# EAGLE library part DS3234 (library Schuyler)
Real Time Clock. http://datasheets.maximintegrated.com/en/ds/DS3234.pdf
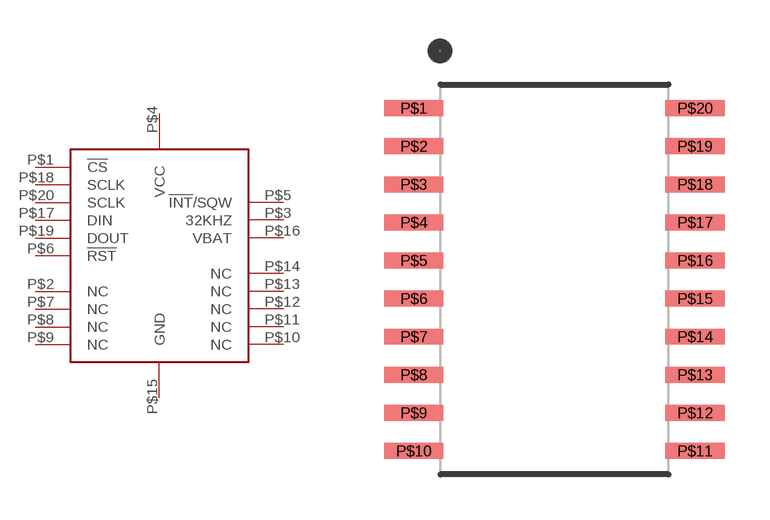
[diagram p24: symbol with the pads of SOIC-20_MAXIM; footprint SOIC-20_MAXIM]

Designator prefix U

## DS3234 (MANPARTNUMBER: DS3234S#; MANUFACTURER: Maxim Integrated; PARTNUMBER: DS3234S#-ND; SUPPLIER: DIGIKEY; VERIFIED: FALSE)  [SOIC-20_MAXIM]
P$1  !CS  in
P$2  NC  nc
P$3  32KHZ  out
P$4  VCC  pas
P$5  !INT!/SQW  out
P$6  !RST  in
P$7  NC  nc
P$8  NC  nc
P$9  NC  nc
P$10  NC  nc
P$11  NC  nc
P$12  NC  nc
P$13  NC  nc
P$14  NC  nc
P$15  GND  pas
P$16  VBAT  pas
P$17  DIN  in
P$18  SCLK  in
P$19  DOUT  out
P$20  SCLK  in

## Footprint SOIC-20_MAXIM (pad centres in mm)
SOIC 20 land pattern from Maxim. http://pdfserv.maximintegrated.com/land_patterns/90-0108.PDF Part outline: http://pdfserv.maximintegrated.com/package_dwgs/21-0042.PDF
smd 1.98 x 0.53: P$1 -4.685,5.715; P$2 -4.685,4.445; P$3 -4.685,3.175; P$4 -4.685,1.905; P$5 -4.685,0.635; P$6 -4.685,-0.635; P$7 -4.685,-1.905; P$8 -4.685,-3.175; P$9 -4.685,-4.445; P$10 -4.685,-5.715; P$11 4.685,-5.715; P$12 4.685,-4.445; P$13 4.685,-3.175; P$14 4.685,-1.905; P$15 4.685,-0.635; P$16 4.685,0.635; P$17 4.685,1.905; P$18 4.685,3.175; P$19 4.685,4.445; P$20 4.685,5.715